# EAGLE library part SSM2045 (library dan)
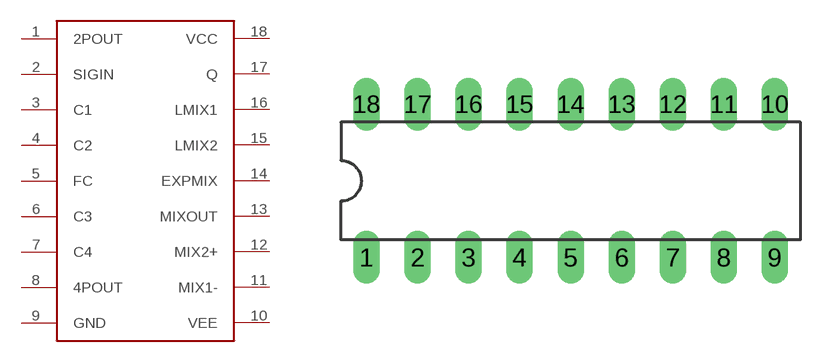
[diagram p18: symbol with the pads of DIL18; footprint DIL18]

Designator prefix -

## SSM2045  [DIL18]
1  2POUT
2  SIGIN
3  C1
4  C2
5  FC
6  C3
7  C4
8  4POUT
9  GND
10  VEE
11  MIX1-
12  MIX2+
13  MIXOUT
14  EXPMIX
15  LMIX2
16  LMIX1
17  Q
18  VCC

## Footprint DIL18 (pad centres in mm)
Dual In Line Package
drill 0.813 long: 1 -10.16,-3.81; 2 -7.62,-3.81; 3 -5.08,-3.81; 4 -2.54,-3.81; 5 0,-3.81; 6 2.54,-3.81; 7 5.08,-3.81; 8 7.62,-3.81; 9 10.16,-3.81; 10 10.16,3.81; 11 7.62,3.81; 12 5.08,3.81; 13 2.54,3.81; 14 0,3.81; 15 -2.54,3.81; 16 -5.08,3.81; 17 -7.62,3.81; 18 -10.16,3.81